# Altium schematic symbol library MT48LC4M16.Schlib: 1 symbol
Pins are listed as number, name and electrical type; pins without a type are passive.

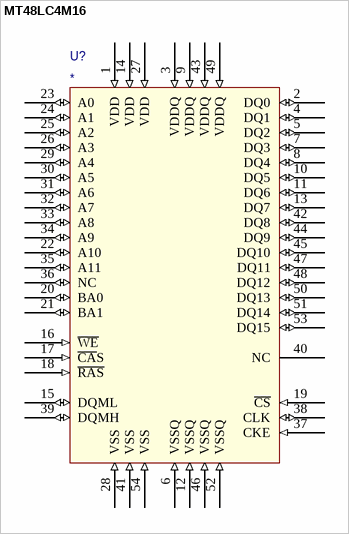
[diagram p0: symbol MT48LC4M16]

## MT48LC4M16
designator U?
8M SDRAM (4Mx16)
signal-integrity model Model Name (Model Description)
signal-integrity model Model Name (Model Description)
pins: 1 VDD (in), 2 DQ0 (io), 3 VDDQ (in), 4 DQ1 (io), 5 DQ2 (io), 6 VSSQ (in), 7 DQ3 (io), 8 DQ4 (io), 9 VDDQ (in), 10 DQ5 (io), 11 DQ6 (io), 12 VSSQ (in), 13 DQ7 (io), 14 VDD (in), 15 DQML (io), 16 ~{WE} (in), 17 ~{CA}S (in), 18 ~{RAS} (in), 19 ~{CS} (in), 20 BA0 (io), 21 BA1 (io), 22 A10 (io), 23 A0 (io), 24 A1 (io), 25 A2 (io), 26 A3 (io), 27 VDD (in), 28 VSS (in), 29 A4 (io), 30 A5 (io), 31 A6 (io), 32 A7 (io), 33 A8 (io), 34 A9 (io), 35 A11 (io), 36 NC (io), 37 CKE (in), 38 CLK (io), 39 DQMH (io), 40 NC, 41 VSS (in), 42 DQ8 (io), 43 VDDQ (in), 44 DQ9 (io), 45 DQ10 (io), 46 VSSQ (in), 47 DQ11 (io), 48 DQ12 (io), 49 VDDQ (in), 50 DQ13 (io), 51 DQ14 (io), 52 VSSQ (in), 53 DQ15 (io), 54 VSS (in)